# Altium footprint library UKU205.PcbLib: 41 footprints (part 2 of 3)
Each footprint in its own frame and in the unit in brackets; x right, y up, seen from the top. Pads: shape width x height; smd on the part's side, far side on the other; paste and mask are expansions set on the pad; w line width, h text height; cw(c..) or ccw(c..) is an arc to the next point about the centre after c.
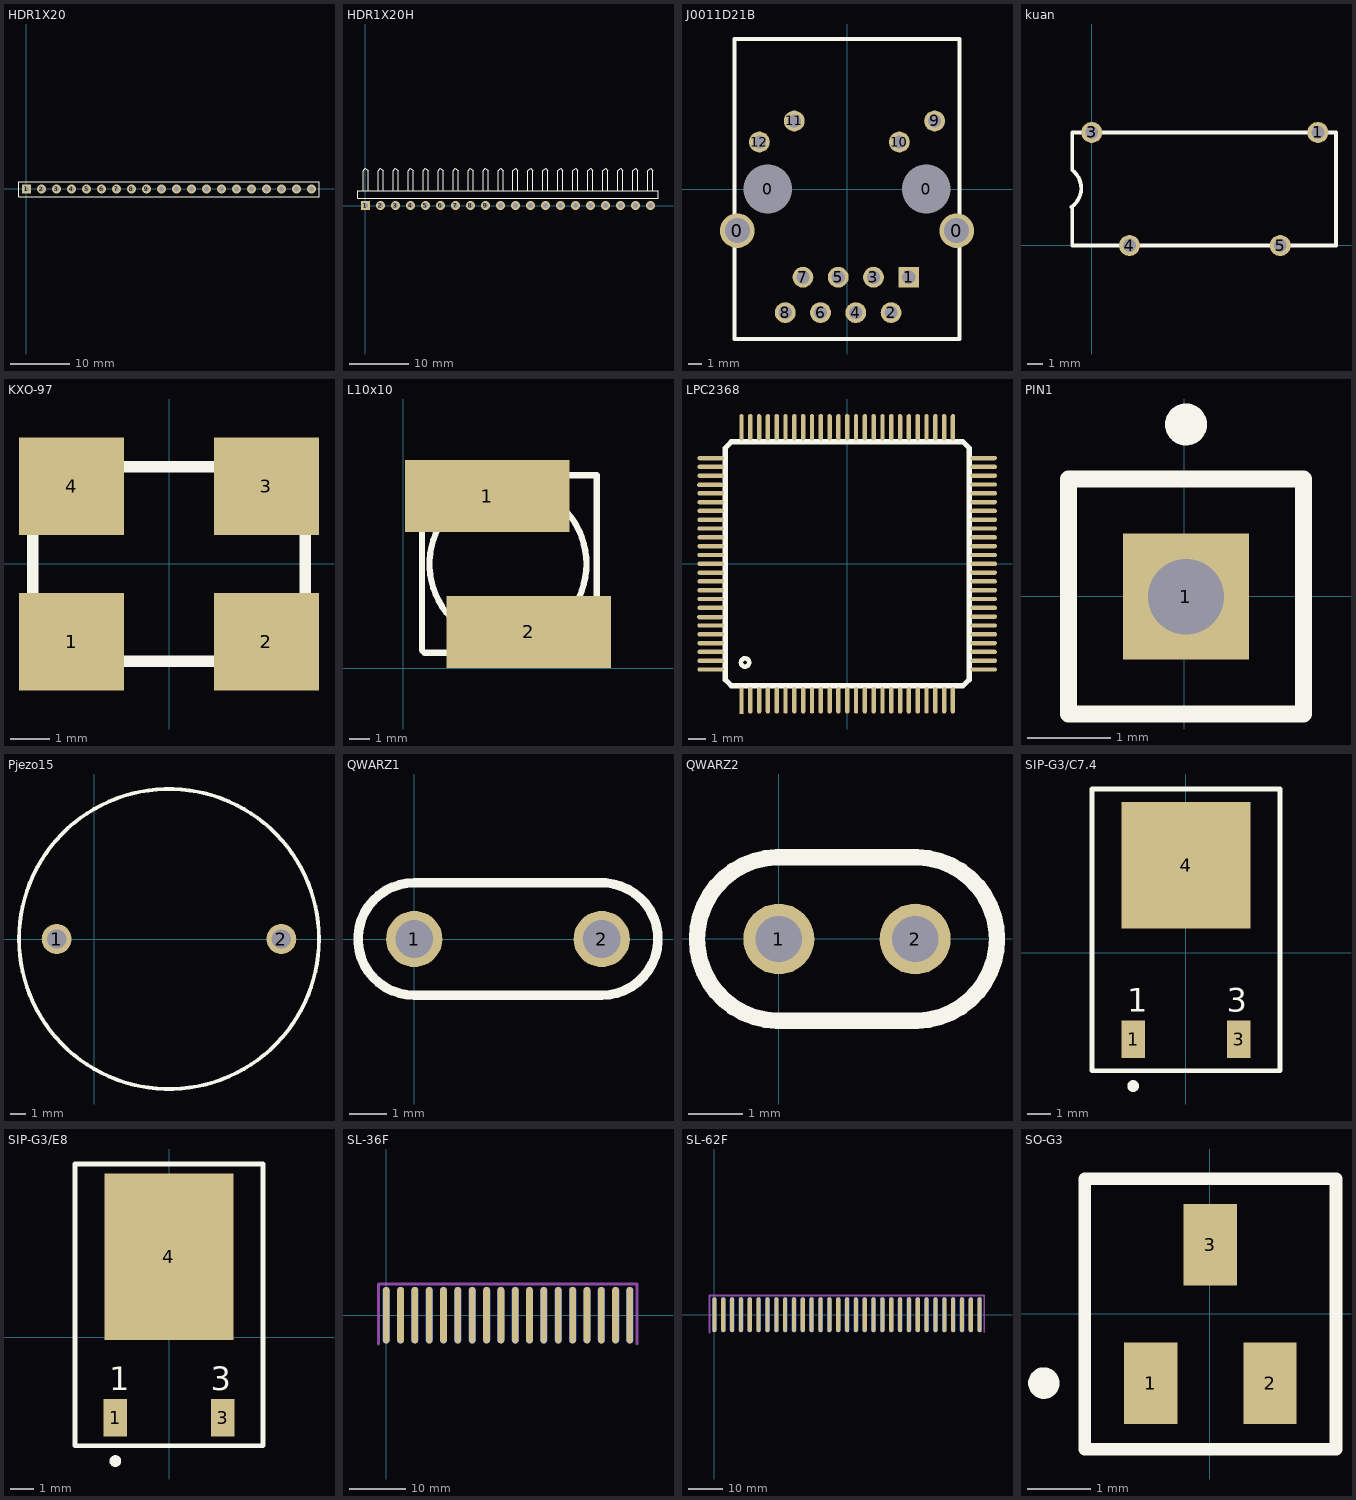
[diagram p1: the footprints below, top view; thin cyan lines are the x and y axes]

## HDR1X20 [mm]
pads (20):
  rect 1.5x1.5 hole 0.9: 1(0.006,-0.003)
  round 1.5 hole 0.9: 2(2.546,-0.003) 3(5.086,-0.003) 4(7.626,-0.003) 5(10.166,-0.003) 6(12.706,-0.003) 7(15.246,-0.003) 8(17.786,-0.003) 9(20.326,-0.003) 10(22.866,-0.003) 11(25.406,-0.003) 12(27.946,-0.003) 13(30.486,-0.003) 14(33.026,-0.003) 15(35.566,-0.003) 16(38.106,-0.003) 17(40.646,-0.003) 18(43.186,-0.003) 19(45.726,-0.003) 20(48.266,-0.003)
Top Overlay:
  lines w0.2: -1.264,-1.273 -1.264,1.267 0.641,1.267 49.536,1.267 49.536,-1.273 -1.264,-1.273

## HDR1X20H [mm]
pads (20):
  rect 1.5x1.5 hole 0.9: 1(0.008,-0.003)
  round 1.5 hole 0.9: 2(2.548,-0.003) 3(5.088,-0.003) 4(7.628,-0.003) 5(10.168,-0.003) 6(12.708,-0.003) 7(15.248,-0.003) 8(17.788,-0.003) 9(20.328,-0.003) 10(22.868,-0.003) 11(25.408,-0.003) 12(27.948,-0.003) 13(30.488,-0.003) 14(33.028,-0.003) 15(35.568,-0.003) 16(38.108,-0.003) 17(40.648,-0.003) 18(43.188,-0.003) 19(45.728,-0.003) 20(48.268,-0.003)
Top Overlay:
  lines w0.2: -0.416,2.537 -0.416,5.923 0.008,6.347 0.431,5.923 0.431,2.537 ; 2.124,2.537 2.124,5.923 2.548,6.347 2.971,5.923 2.971,2.537 ; 4.664,2.537 4.664,5.923 5.088,6.347 5.511,5.923 5.511,2.537 ; 7.204,2.537 7.204,5.923 7.628,6.347 8.051,5.923 8.051,2.537 ; 9.744,2.537 9.744,5.923 10.168,6.347 10.591,5.923 10.591,2.537 ; 12.284,2.537 12.284,5.923 12.708,6.347 13.131,5.923 13.131,2.537 ; 14.824,2.537 14.824,5.923 15.248,6.347 15.671,5.923 15.671,2.537 ; 17.364,2.537 17.364,5.923 17.788,6.347 18.211,5.923 18.211,2.537 ; 19.904,2.537 19.904,5.923 20.328,6.347 20.751,5.923 20.751,2.537 ; 22.444,2.537 22.444,5.923 22.868,6.347 23.291,5.923 23.291,2.537 ; 24.984,2.537 24.984,5.923 25.408,6.347 25.831,5.923 25.831,2.537 ; 27.524,2.537 27.524,5.923 27.948,6.347 28.371,5.923 28.371,2.537 ; 30.064,2.537 30.064,5.923 30.488,6.347 30.911,5.923 30.911,2.537 ; 32.604,2.537 32.604,5.923 33.028,6.347 33.451,5.923 33.451,2.537 ; 35.144,2.537 35.144,5.923 35.568,6.347 35.991,5.923 35.991,2.537 ; 37.684,2.537 37.684,5.923 38.108,6.347 38.531,5.923 38.531,2.537 ; 40.224,2.537 40.224,5.923 40.648,6.347 41.071,5.923 41.071,2.537 ; 42.764,2.537 42.764,5.923 43.188,6.347 43.611,5.923 43.611,2.537 ; 45.304,2.537 45.304,5.923 45.728,6.347 46.151,5.923 46.151,2.537 ; 47.844,2.537 47.844,5.923 48.268,6.347 48.691,5.923 48.691,2.537 ; -1.262,1.267 -1.262,2.537 49.538,2.537 49.538,1.267 0.643,1.267 -1.262,1.267

## J0011D21B [mm]
pads (16):
  round 2.5 hole 1.8: 0(-7.902,-2.993) 0(7.898,-2.993)
  round 1.5 hole 3.5: 0(-5.702,0.007) 0(5.698,0.007)
  rect 1.5x1.5 hole 0.95: 1(4.443,-6.343)
  round 1.5 hole 0.95: 2(3.173,-8.893) 3(1.903,-6.343) 4(0.633,-8.893) 5(-0.637,-6.343) 6(-1.907,-8.893) 7(-3.177,-6.343) 8(-4.447,-8.893) 9(6.308,4.907) 10(3.768,3.387) 11(-3.802,4.907) 12(-6.312,3.387)
Top Overlay:
  lines w0.3: -8.102,-10.793 -8.102,0.007 -8.102,10.807 -0.002,10.807 8.098,10.807 8.098,0.007 8.098,-10.793 -0.002,-10.793 -8.102,-10.793

## kuan [mm]
pads (4):
  round 1.4 hole 0.85: 1(14.994,7.479) 3(-0.006,7.479) 4(2.494,-0.021) 5(12.494,-0.021)
Top Overlay:
  lines w0.254: -1.352,2.546 ccw(c-2.206,3.779) -1.306,4.979 -1.306,7.479 -0.006,7.479 14.994,7.479 16.194,7.479 16.194,-0.021 14.994,-0.021 -0.006,-0.021 -1.306,-0.021 -1.306,2.479

## KXO-97 [mm]
pads (4):
  rect 2.7x2.5 smd: 1(-2.51,-2.004) 2(2.49,-2.004) 3(2.49,1.996) 4(-2.51,1.996)
Top Overlay:
  lines w0.3: -3.51,-2.504 -0.01,-2.504 3.49,-2.504 3.49,-0.004 3.49,2.496 -0.01,2.496 -3.51,2.496 -3.51,-0.004 -3.51,-2.504

## L10x10 [mm]
pads (2):
  rect 8x3.5 smd: 1(4.075,8.37) 2(6.107,1.766)
Top Overlay:
  circle w0.3: c5.091,5.068 r3.821
  lines w0.3: 0.9,0.877 1.027,0.75 9.028,0.75 9.155,0.75 9.409,0.75 9.409,7.862 9.409,9.259 9.409,9.386 0.9,9.386 0.9,0.877

## LPC2368 [mm]
pads (100):
  rect 0.25x1.5 smd: 1(-6.01,-7.769)
  oval 0.25x1.5 smd: 2(-5.51,-7.744) 3(-5.01,-7.744) 4(-4.51,-7.744) 5(-4.01,-7.744) 6(-3.51,-7.744) 7(-3.01,-7.744) 8(-2.51,-7.744) 9(-2.01,-7.744) 10(-1.51,-7.744) 11(-1.01,-7.744) 12(-0.51,-7.744) 13(-0.01,-7.744) 14(0.49,-7.744) 15(0.99,-7.744) 16(1.49,-7.744) 17(1.99,-7.744) 18(2.49,-7.744) 19(2.99,-7.744) 20(3.49,-7.744) 21(3.99,-7.744) 22(4.49,-7.744) 23(4.99,-7.744) 24(5.49,-7.744) 25(5.99,-7.744) 51(5.99,7.756) 52(5.49,7.756) 53(4.99,7.756) 54(4.49,7.756) 55(3.99,7.756) 56(3.49,7.756) 57(2.99,7.756) 58(2.49,7.756) 59(1.99,7.756) 60(1.49,7.756) 61(0.99,7.756) 62(0.49,7.756) 63(-0.01,7.756) 64(-0.51,7.756) 65(-1.01,7.756) 66(-1.51,7.756) 67(-2.01,7.756) 68(-2.51,7.756) 69(-3.01,7.756) 70(-3.51,7.756) 71(-4.01,7.756) 72(-4.51,7.756) 73(-5.01,7.756) 74(-5.51,7.756) 75(-6.01,7.756)
  oval 1.5x0.25 smd: 26(7.74,-5.994) 27(7.74,-5.494) 28(7.74,-4.994) 29(7.74,-4.494) 30(7.74,-3.994) 31(7.74,-3.494) 32(7.74,-2.994) 33(7.74,-2.494) 34(7.74,-1.994) 35(7.74,-1.494) 36(7.74,-0.994) 37(7.74,-0.494) 38(7.74,0.006) 39(7.74,0.506) 40(7.74,1.006) 41(7.74,1.506) 42(7.74,2.006) 43(7.74,2.506) 44(7.74,3.006) 45(7.74,3.506) 46(7.74,4.006) 47(7.74,4.506) 48(7.74,5.006) 49(7.74,5.506) 50(7.74,6.006) 76(-7.76,6.006) 77(-7.76,5.506) 78(-7.76,5.006) 79(-7.785,4.481) 80(-7.76,4.006) 81(-7.76,3.506) 82(-7.76,3.006) 83(-7.76,2.506) 84(-7.76,2.006) 85(-7.76,1.506) 86(-7.76,1.006) 87(-7.76,0.506) 88(-7.76,0.006) 89(-7.76,-0.494) 90(-7.76,-0.994) 91(-7.76,-1.494) 92(-7.76,-1.994) 93(-7.76,-2.494) 94(-7.785,-3.019) 95(-7.76,-3.494) 96(-7.76,-3.994) 97(-7.76,-4.494) 98(-7.76,-4.994) 99(-7.76,-5.494) 100(-7.76,-5.994)
Top Overlay:
  circle w0.254: c-5.81,-5.594 r0.236
  lines w0.3: -6.935,-6.469 -6.935,0.006 -6.935,6.556 ; -6.935,-6.419 -6.935,-6.569 -6.585,-6.919 -6.56,-6.919 -0.01,-6.919 6.465,-6.919 ; -6.935,6.581 -6.585,6.931 ; -6.485,6.931 -0.01,6.931 6.54,6.931 ; 6.565,-6.919 6.915,-6.569 ; 6.565,6.931 6.915,6.581 ; 6.915,-6.544 6.915,0.006 6.915,6.481

## PIN1 [mm]
pads (1):
  rect 1.5x1.5 hole 0.9: 1(0.022,0)
Top Overlay:
  circle w0.25: c0.022,2.05 r0.125
  lines w0.2: -1.378,-1.4 1.422,-1.4 1.422,1.4 -1.378,1.4 -1.378,-1.4

## Pjezo15 [mm]
pads (2):
  round 2 hole 1.3: 1(-2.495,0.003) 2(12.505,0.003)
Top Overlay:
  circle w0.254: c5.005,0.003 r10.012

## QWARZ1 [mm]
pads (2):
  round 1.5 hole 1: 1(0,0.005) 2(5,0.005)
Top Overlay:
  lines w0.254: 4.9,1.501 cw(c5,0.005) 5,-1.495 0,-1.495 cw(c0,0.005) 0,1.505 5,1.505

## QWARZ2 [mm]
pads (2):
  round 1.3 hole 0.85: 1(-0.003,-0.005) 2(2.497,-0.005)
Top Overlay:
  lines w0.3: -0.043,-1.505 cw(c-0.003,-0.005) -0.043,1.495 2.537,1.495 cw(c2.497,-0.005) 2.537,-1.505 -0.043,-1.505

## SIP-G3/C7.4 [mm]
pads (3):
  rect 1x1.6 smd: 1(-2.231,-3.681) 3(2.269,-3.681)
  rect 5.5x5.4 smd: 4(0.019,3.719)
Top Overlay:
  circle w0.25: c-2.231,-5.681 r0.125
  lines w0.2: -3.981,-5.031 -3.981,6.969 4.019,6.969 4.019,-5.031 -3.981,-5.031
  text "1" at -2.481,-2.506 h1
  text "3" at 1.762,-2.506 h1

## SIP-G3/E8 [mm]
pads (3):
  rect 1x1.6 smd: 1(-2.288,-3.429) 3(2.282,-3.429)
  rect 5.5x7.1 smd: 4(-0.003,3.421)
Top Overlay:
  circle w0.25: c-2.288,-5.279 r0.125
  lines w0.2: -4.003,-4.629 -4.003,7.371 3.997,7.371 3.997,-4.629 -4.003,-4.629
  text "3" at 1.785,-2.254 h1
  text "1" at -2.543,-2.254 h1

## SL-36F [mm]
pads (36):
  oval 1.2x10 smd: 1(0,-0.011) 3(2.55,-0.011) 5(5.075,-0.011) 7(7.625,-0.011) 9(10.15,-0.011) 11(12.675,-0.011) 13(15.25,-0.011) 15(17.8,-0.011) 17(20.325,-0.011) 19(22.875,-0.011) 21(25.4,-0.011) 23(27.925,-0.011) 25(30.5,-0.011) 27(33.05,-0.011) 29(35.575,-0.011) 31(38.125,-0.011) 33(40.65,-0.011) 35(43.175,-0.011)
  oval 1.2x10 smd far side: 2(0,-0.011) 4(2.55,-0.011) 6(5.075,-0.011) 8(7.625,-0.011) 10(10.15,-0.011) 12(12.7,-0.011) 14(15.25,-0.011) 16(17.8,-0.011) 18(20.325,-0.011) 20(22.875,-0.011) 22(25.4,-0.011) 24(27.925,-0.011) 26(30.5,-0.011) 28(33.05,-0.011) 30(35.575,-0.011) 32(38.125,-0.011) 34(40.675,-0.011) 36(43.175,-0.011)
Mechanical 1:
  lines w0.5: -1.375,-5.111 -1.375,5.514 44.45,5.514 44.475,5.489 44.475,-5.061

## SL-62F [mm]
pads (62):
  oval 1.2x10 smd: 1(0,-0.011) 3(2.55,-0.011) 5(5.075,-0.011) 7(7.625,-0.011) 9(10.15,-0.011) 11(12.675,-0.011) 13(15.25,-0.011) 15(17.8,-0.011) 17(20.325,-0.011) 19(22.875,-0.011) 21(25.4,-0.011) 23(27.925,-0.011) 25(30.5,-0.011) 27(33.05,-0.011) 29(35.575,-0.011) 31(38.125,-0.011) 33(40.65,-0.011) 35(43.175,-0.011) 37(45.7,-0.011) 39(48.275,-0.011) 41(50.825,-0.011) 43(53.35,-0.011) 45(55.9,-0.011) 47(58.425,-0.011) 49(60.95,-0.011) 51(63.525,-0.011) 53(66.075,-0.011) 55(68.6,-0.011) 57(71.15,-0.011) 59(73.675,-0.011) 61(76.2,-0.011)
  oval 1.2x10 smd far side: 2(0,-0.011) 4(2.55,-0.011) 6(5.075,-0.011) 8(7.625,-0.011) 10(10.15,-0.011) 12(12.7,-0.011) 14(15.25,-0.011) 16(17.8,-0.011) 18(20.325,-0.011) 20(22.875,-0.011) 22(25.4,-0.011) 24(27.925,-0.011) 26(30.5,-0.011) 28(33.05,-0.011) 30(35.575,-0.011) 32(38.125,-0.011) 34(40.675,-0.011) 36(43.175,-0.011) 38(45.725,-0.011) 40(48.275,-0.011) 42(50.825,-0.011) 44(53.35,-0.011) 46(55.9,-0.011) 48(58.425,-0.011) 50(60.95,-0.011) 52(63.525,-0.011) 54(66.075,-0.011) 56(68.6,-0.011) 58(71.15,-0.011) 60(73.7,-0.011) 62(76.2,-0.011)
Mechanical 1:
  lines w0.5: -1.375,-5.111 -1.375,5.514 77.4,5.514 ; 77.475,5.514 77.5,5.489 77.5,-5.061

## SO-G3 [mm]
pads (3):
  rect 0.85x1.3 smd: 1(-0.944,-1.105) 2(0.956,-1.105) 3(0.006,1.095)
Top Overlay:
  circle w0.25: c-2.644,-1.105 r0.125
  lines w0.2: -1.994,-2.155 -1.994,2.145 2.006,2.145 2.006,-2.155 -1.994,-2.155